# Altium schematic symbol library TRANSISTOR_FET.SchLib: 6 symbols
Pins are listed as number, name and electrical type; pins without a type are passive.

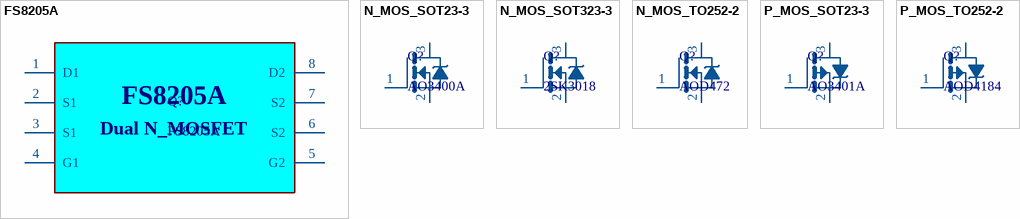
[diagram p0: symbols FS8205A to P_MOS_TO252-2]

## FS8205A
designator Q?
Dual N-Channel MOSFET TSSOP-8
footprint TSSOP8-4.4x3-P0.65
pins: 1 D1, 2 S1, 3 S1, 4 G1, 5 G2, 6 S2, 7 S2, 8 D2
text: Dual N_MOSFET

## N_MOS_SOT23-3
designator Q?, comment AO3400A
N-Channel MOSFET SMD SOT23-3
footprint SOT23-3
pins: 1 G (power), 2 S (power), 3 D (power)

## N_MOS_SOT323-3
designator Q?, comment 2SK3018
N-Channel MOSFET SMD SOT323-3
footprint SOT323-3
pins: 1 G (power), 2 S (power), 3 D (power)

## N_MOS_TO252-2
designator Q?, comment AOD472
N-Channel MOSFET SMD TO252-2
footprint TO-252-2
pins: 1 G (power), 2 S (power), 3 D (power)

## P_MOS_SOT23-3
designator Q?, comment AO3401A
P-Channel MOSFET SMD SOT23-3
footprint SOT23-3
pins: 1 G (power), 2 S (power), 3 D (power)

## P_MOS_TO252-2
designator Q?, comment AOD4184
P-Channel MOSFET SMD TO252-2
footprint TO-252-2
pins: 1 G (power), 2 S (power), 3 D (power)